# Altium schematic symbol library minicircuits.SCHLIB: 6 symbols
Pins are listed as number, name and electrical type; pins without a type are passive.

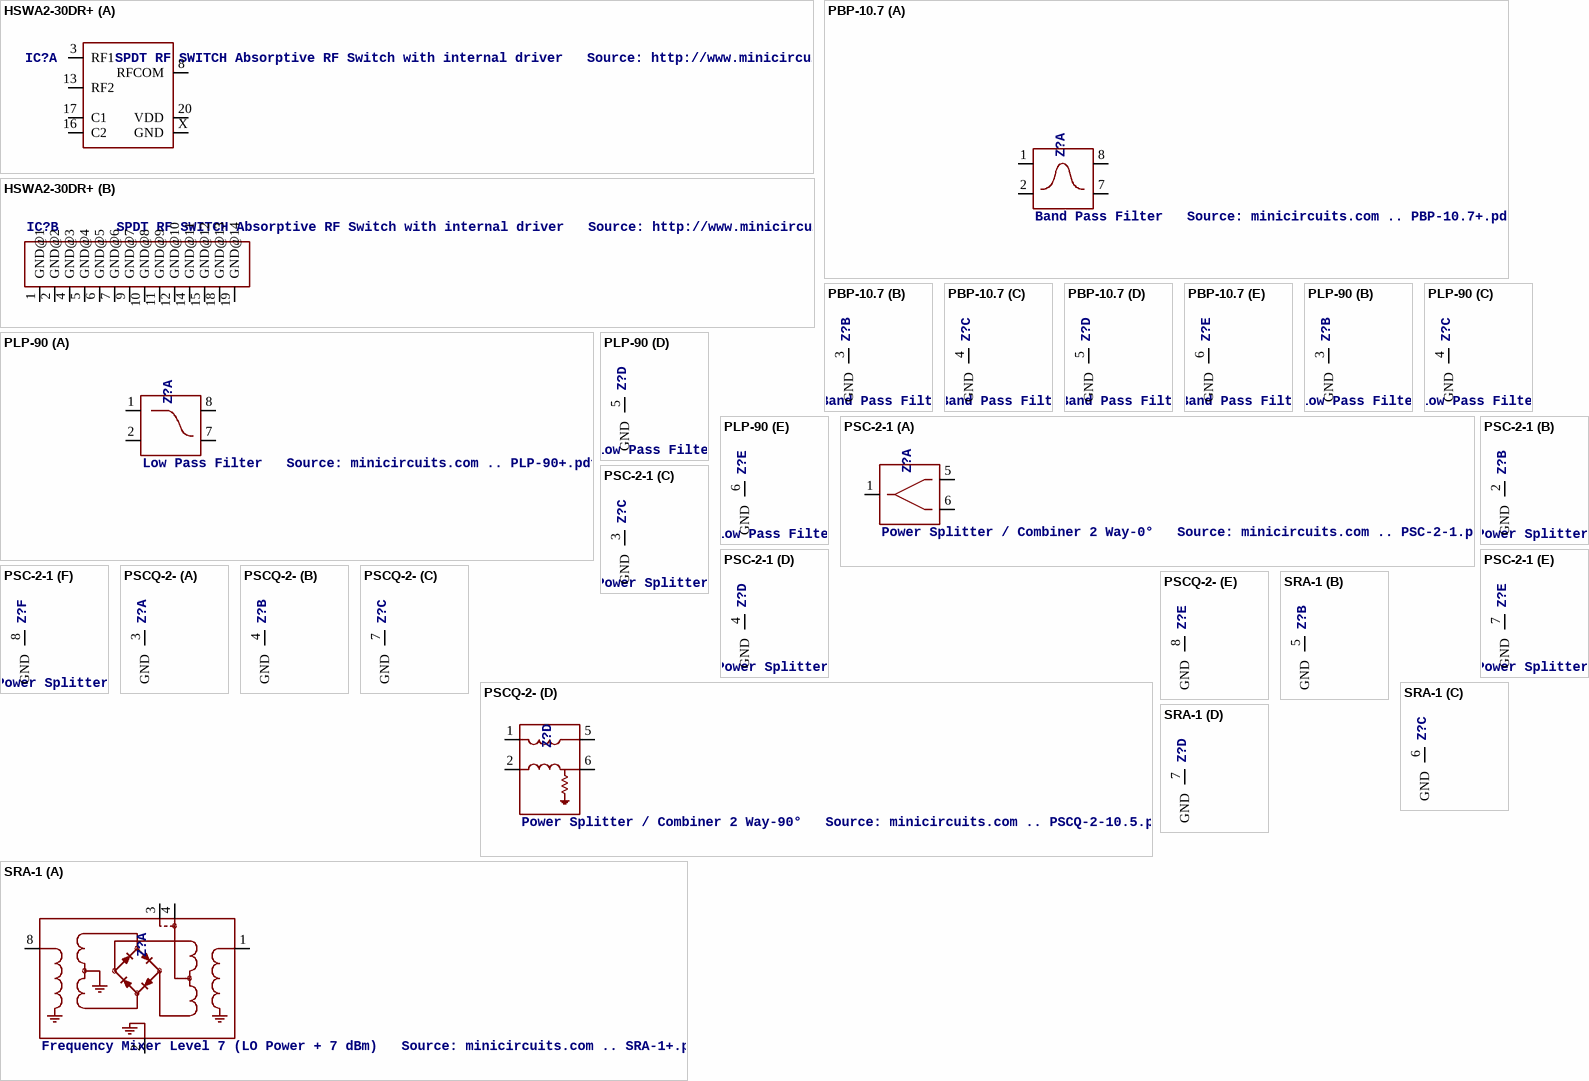
[diagram p0: symbols HSWA2-30DR+ to SRA-1]

## HSWA2-30DR+
designator IC?, comment SPDT RF SWITCH Absorptive RF Switch with internal driver   Source: http://www.minicircuits.com .. HSWA2-30DR+.pdf
OC_FARNELL: unknown; OC_NEWARK: unknown
footprint DG983-1
part A pins: 3 RF1, 8 RFCOM, 13 RF2, 16 C2, 17 C1, 20 VDD, X GND (power)
part B pins: 1 GND@1 (power), 2 GND@2 (power), 4 GND@3 (power), 5 GND@4 (power), 6 GND@5 (power), 7 GND@6 (power), 9 GND@7 (power), 10 GND@8 (power), 11 GND@9 (power), 12 GND@10 (power), 14 GND@11 (power), 15 GND@12 (power), 18 GND@13 (power), 19 GND@14 (power)

## PBP-10.7
designator Z?, comment Band Pass Filter   Source: minicircuits.com .. PBP-10.7+.pdf
OC_FARNELL: unknown; OC_NEWARK: unknown
footprint A01
part A pins: 1 IN, 2 GND@1, 7 GND@2, 8 OUT
part B pins: 3 GND (power)
part C pins: 4 GND (power)
part D pins: 5 GND (power)
part E pins: 6 GND (power)

## PLP-90
designator Z?, comment Low Pass Filter   Source: minicircuits.com .. PLP-90+.pdf
OC_FARNELL: unknown; OC_NEWARK: unknown
footprint A01
part A pins: 1 IN, 2 GND@1, 7 GND@2, 8 OUT
part B pins: 3 GND (power)
part C pins: 4 GND (power)
part D pins: 5 GND (power)
part E pins: 6 GND (power)

## PSC-2-1
designator Z?, comment Power Splitter / Combiner 2 Way-0°   Source: minicircuits.com .. PSC-2-1.pdf
OC_FARNELL: unknown; OC_NEWARK: unknown
footprint A01
part A pins: 1 IN, 5 OUT1, 6 OUT2
part B pins: 2 GND (power)
part C pins: 3 GND (power)
part D pins: 4 GND (power)
part E pins: 7 GND (power)
part F pins: 8 GND (power)

## PSCQ-2-
designator Z?, comment Power Splitter / Combiner 2 Way-90°   Source: minicircuits.com .. PSCQ-2-10.5.pdf
OC_FARNELL: unknown; OC_NEWARK: unknown
footprint A01
part A pins: 3 GND (power)
part B pins: 4 GND (power)
part C pins: 7 GND (power)
part D pins: 1 SUM, 2 PORT1, 5 PORT2, 6 X
part E pins: 8 GND (power)

## SRA-1
designator Z?, comment Frequency Mixer Level 7 (LO Power + 7 dBm)   Source: minicircuits.com .. SRA-1+.pdf
OC_FARNELL: unknown; OC_NEWARK: unknown
footprint A01
part A pins: 1 R, 2 CASEGROUND, 3 IF, 4 IF@1, 8 L
part B pins: 5 GND (power)
part C pins: 6 GND (power)
part D pins: 7 GND (power)